# Altium footprint library HVPowerModule_Old.PcbLib: 20 footprints (part 1 of 2)
Each footprint in its own frame and in the unit in brackets; x right, y up, seen from the top. Pads: shape width x height; smd on the part's side, far side on the other; paste and mask are expansions set on the pad; w line width, h text height; cw(c..) or ccw(c..) is an arc to the next point about the centre after c.
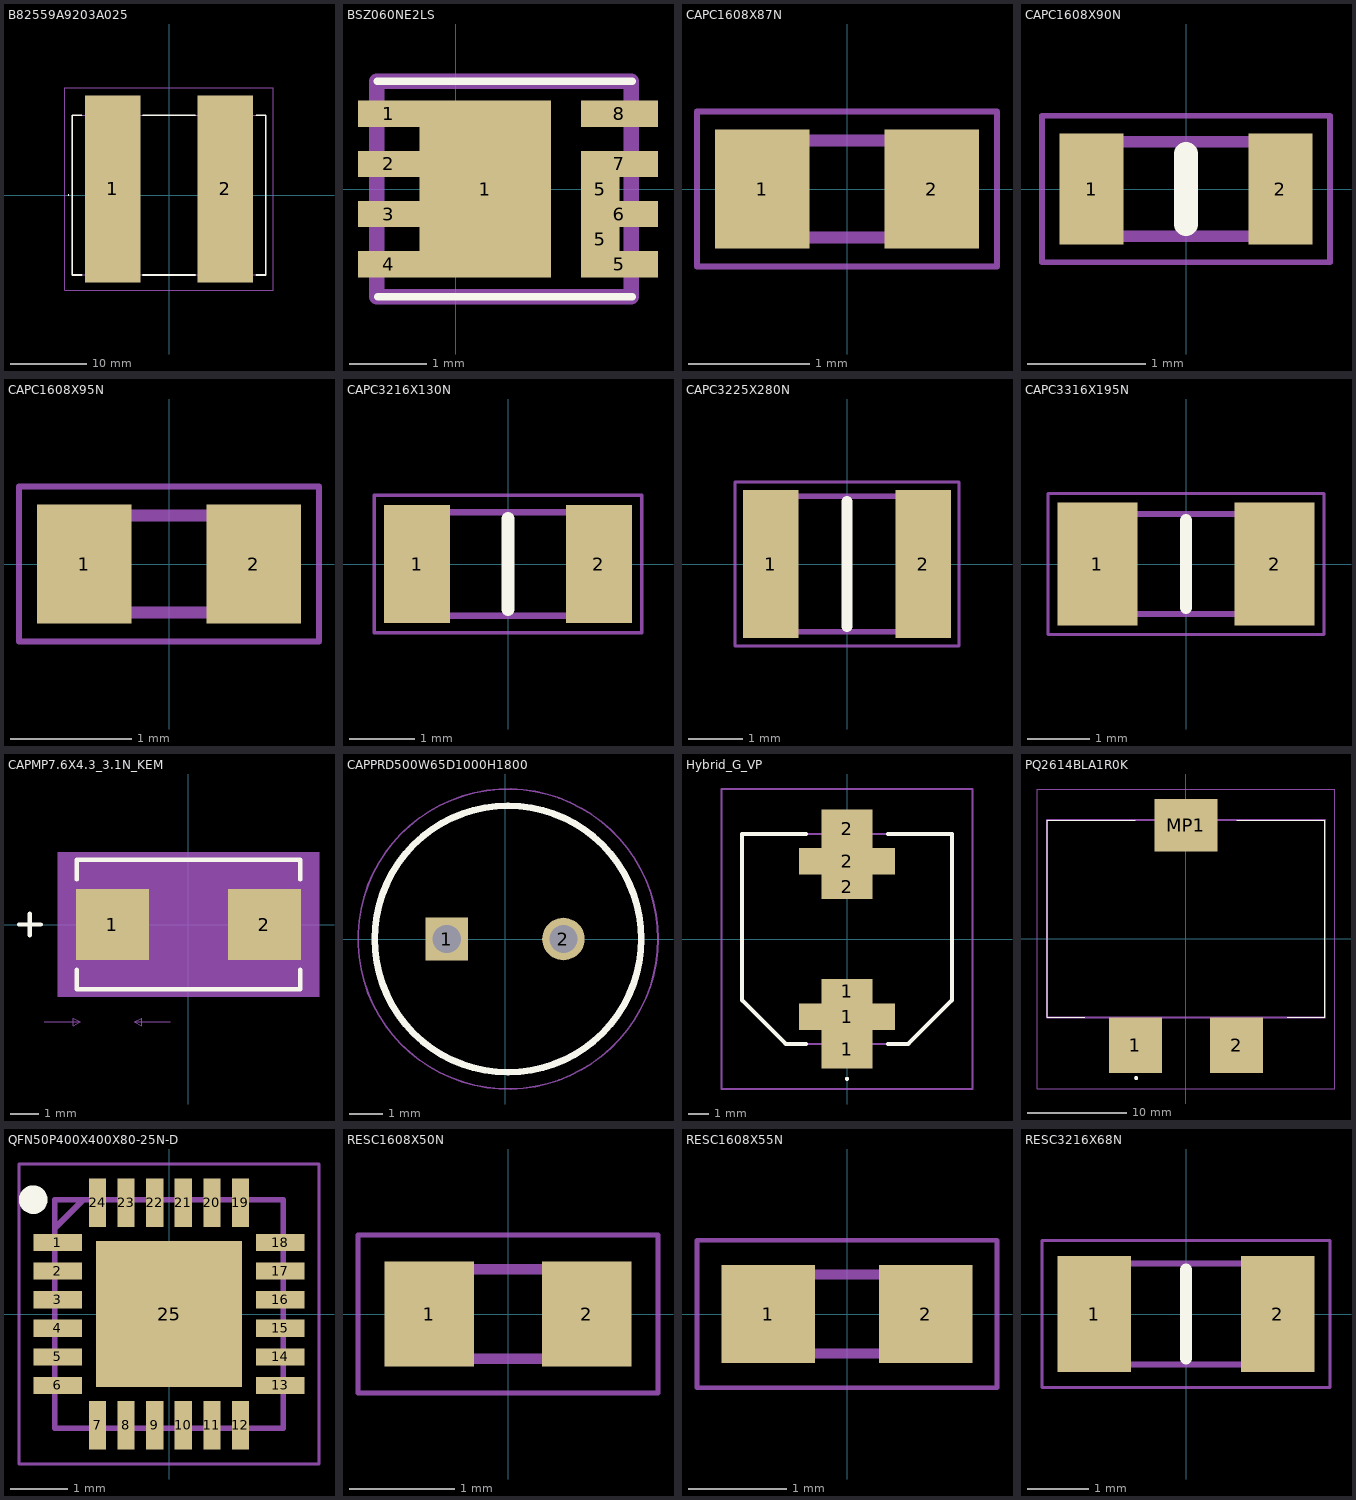
[diagram p0: the footprints below, top view; thin cyan lines are the x and y axes]

## B82559A9203A025 [mm]
pads (2):
  rect 7.25x24.5 smd: 1(-7.375,0.8) 2(7.375,0.8)
Top Overlay:
  lines w0.1: -13.2,0 ccw(c-13.15,0) -13.1,0 ccw(c-13.15,0) -13.2,0
  lines w0.2: -11.4,-10.45 -12.65,-10.45 -12.65,10.45 -11.4,10.45 ; -3.4,-10.45 3.4,-10.45 ; -3.4,10.45 3.4,10.45 ; 11.4,-10.45 12.65,-10.45 12.65,10.45 11.4,10.45
Mechanical 13:
  lines w0.1: -12.65,-10.45 12.65,-10.45 12.65,10.45 -12.65,10.45 -12.65,-10.45
Mechanical 15:
  lines w0.1: -13.65,-12.45 13.65,-12.45 13.65,14.05 -13.65,14.05 -13.65,-12.45
3D body "B82559A9203A025.stp": height 14.9, standoff -0.09, extent -12.726,-12 12.574,11.5

## BSZ060NE2LS [mm]
pads (11):
  rect 0.8x0.34 smd: 1(-0.87,0.975) 2(-0.87,0.325) 3(-0.87,-0.325) 4(-0.87,-0.975)
  rect 1.71x2.29 smd: 1(0.38,0)
  rect 0.5x0.34 smd: 5(1.87,-0.65) 5(1.87,0)
  rect 1x0.34 smd: 5(2.12,-0.975) 6(2.12,-0.325) 7(2.12,0.325) 8(2.12,0.975)
Top Overlay:
  lines w0.1: -1.016,1.397 2.284,1.397 ; -1.014,-1.397 2.286,-1.397
Mechanical 13:
  lines w0.2: -1.025,-1.397 2.275,-1.397 2.275,1.397 -1.025,1.397 -1.025,-1.397

## CAPC1608X87N [mm]
pads (2):
  rect 0.78x0.98 smd: 1(-0.7,0) 2(0.7,0)
Mechanical 13:
  lines w0.1: -0.8,-0.4 -0.8,0.4 0.8,0.4 0.8,-0.4 -0.8,-0.4
Mechanical 15:
  lines w0.05: -1.24,-0.64 -1.24,0.64 1.24,0.64 1.24,-0.64 -1.24,-0.64
3D body "C0603C101J5RACTU.stp": height 0.87, standoff 0, extent -0.8,-0.4 0.8,0.4

## CAPC1608X90N [mm]
pads (2):
  rect 0.54x0.94 smd: 1(-0.8,0) 2(0.8,0)
Top Overlay:
  lines w0.2: 0,-0.3 0,0.3
Mechanical 13:
  lines w0.1: -0.8,-0.4 0.8,-0.4 0.8,0.4 -0.8,0.4 -0.8,-0.4
Mechanical 15:
  lines w0.05: -1.22,-0.62 1.22,-0.62 1.22,0.62 -1.22,0.62 -1.22,-0.62
3D body "CGA3E2X7R1H683K080AA.stp": height 0.9, standoff 0, extent -0.8,-0.4 0.8,0.4

## CAPC1608X95N [mm]
pads (2):
  rect 0.78x0.98 smd: 1(-0.7,0) 2(0.7,0)
Mechanical 13:
  lines w0.1: -0.8,-0.4 -0.8,0.4 0.8,0.4 0.8,-0.4 -0.8,-0.4
Mechanical 15:
  lines w0.05: -1.24,-0.64 -1.24,0.64 1.24,0.64 1.24,-0.64 -1.24,-0.64
3D body "C0603C104M4RACTU.stp": height 0.95, standoff 0, extent -0.8,-0.4 0.8,0.4

## CAPC3216X130N [mm]
pads (2):
  rect 1.02x1.82 smd: 1(-1.4,0) 2(1.4,0)
Top Overlay:
  lines w0.2: 0,-0.7 0,0.7
Mechanical 13:
  lines w0.1: -1.6,-0.8 -1.6,0.8 1.6,0.8 1.6,-0.8 -1.6,-0.8
Mechanical 15:
  lines w0.05: -2.06,-1.06 -2.06,1.06 2.06,1.06 2.06,-1.06 -2.06,-1.06
3D body "C1206C105M5RECTU.stp": height 1.3, standoff 0, extent -1.6,-0.8 1.6,0.8

## CAPC3225X280N [mm]
pads (2):
  rect 1.02x2.72 smd: 1(-1.4,0) 2(1.4,0)
Top Overlay:
  lines w0.2: 0,-1.15 0,1.15
Mechanical 13:
  lines w0.1: -1.6,-1.25 -1.6,1.25 1.6,1.25 1.6,-1.25 -1.6,-1.25
Mechanical 15:
  lines w0.05: -2.06,-1.51 -2.06,1.51 2.06,1.51 2.06,-1.51 -2.06,-1.51
3D body "C1210C106K5RACTU.stp": height 2.8, standoff 0, extent -1.6,-1.25 1.6,1.25

## CAPC3316X195N [mm]
pads (2):
  rect 1.28x1.96 smd: 1(-1.42,0) 2(1.42,0)
Top Overlay:
  lines w0.2: 0,-0.7 0,0.7
Mechanical 13:
  lines w0.1: -1.65,-0.8 1.65,-0.8 1.65,0.8 -1.65,0.8 -1.65,-0.8
Mechanical 15:
  lines w0.05: -2.21,-1.13 2.21,-1.13 2.21,1.13 -2.21,1.13 -2.21,-1.13
3D body "C1206X475M5RACAUTO.stp": height 1.95, standoff 0, extent -1.65,-0.8 1.65,0.8

## CAPMP7.6X4.3_3.1N_KEM [mm]
pads (2):
  rect 2.56x2.5 smd paste+0 mask+0: 1(-2.672,0) 2(2.672,0)
Top Overlay:
  lines w0.152: -5.951,0 -5.189,0 ; -5.57,-0.381 -5.57,0.381 ; -3.927,-1.583 -3.927,-2.277 3.927,-2.277 3.927,-1.583 ; -3.927,1.583 -3.927,2.277 3.927,2.277 3.927,1.583
Mechanical 5:
  region: 4.587,-2.531 -4.587,-2.531 -4.587,2.531 4.587,2.531
Mechanical 7:
  lines w0.025: -5.07,-3.42 -3.8,-3.42 ; -0.63,-3.42 -1.9,-3.42 ; -3.8,-3.42 -4.054,-3.293 -4.054,-3.547 -3.8,-3.42 ; -1.9,-3.42 -1.646,-3.293 -1.646,-3.547 -1.9,-3.42
Mechanical 13:
  lines w0.025: -5.951,0 -5.189,0 ; -5.57,-0.381 -5.57,0.381 ; -3.8,-2.15 3.8,-2.15 3.8,2.15 -3.8,2.15 -3.8,-2.15
Mechanical 15:
  region: -4.054,-1.504 -4.206,-1.504 -4.206,1.504 -4.054,1.504 -4.054,2.404 4.054,2.404 4.054,1.504 4.206,1.504 4.206,-1.504 4.054,-1.504 4.054,-2.404 -4.054,-2.404
  lines w0.152: -4.206,-1.504 -4.206,1.504 -4.054,1.504 -4.054,2.404 4.054,2.404 4.054,1.504 4.206,1.504 4.206,-1.504 4.054,-1.504 4.054,-2.404 -4.054,-2.404 -4.054,-1.504 -4.206,-1.504
3D body "CAPMP76X43_31N_KEM.step": height 3.15, standoff 0, extent -3.673,-2.023 3.927,2.277

## CAPPRD500W65D1000H1800 [mm]
pads (2):
  rect 1.275x1.275 hole 0.85: 1(-1.75,0)
  round 1.275 hole 0.85: 2(1.75,0)
Top Overlay:
  circle w0.2: c0.087,0 r4
Mechanical 13:
  circle w0.1: c0.087,0 r4
Mechanical 15:
  circle w0.05: c0.087,0 r4.5

## Hybrid_G_VP [mm]
pads (6):
  rect 2.5x1.9 smd: 1(0,-5.4) 2(0,5.4)
  rect 4.7x1.3 smd: 1(0,-3.8) 2(0,3.8)
  rect 2.5x1.2 smd: 1(0,-2.55) 2(0,2.55)
Top Overlay:
  lines w0.1: 0,-6.9 cw(c0,-6.85) 0,-6.8 cw(c0,-6.85) 0,-6.9
  lines w0.2: -2,-5.15 -3,-5.15 -5.15,-3 -5.15,5.15 -2,5.15 ; 2,-5.15 3,-5.15 5.15,-3 5.15,5.15 2,5.15
Mechanical 13:
  lines w0.1: -5.15,-3 -3,-5.15 3,-5.15 5.15,-3 5.15,5.15 -5.15,5.15 -5.15,-3
Mechanical 15:
  lines w0.1: -6.15,-7.35 6.15,-7.35 6.15,7.35 -6.15,7.35 -6.15,-7.35
3D body "EEH-ZS1V681UV.stp": height 10.59, standoff 0.09, extent -5.15,-5.85 5.15,5.85

## PQ2614BLA1R0K [mm]
pads (3):
  rect 5.33x5.59 smd: 1(-5.075,-10.655) 2(5.075,-10.655)
  rect 6.35x5.28 smd: MP1(0,11.42)
Top Overlay:
  lines w0.1: -10.16,-7.86 -13.95,-7.865 -13.95,11.94 -5.08,11.94 ; 5.075,11.94 13.95,11.94 13.95,-7.86 10.16,-7.86
  lines w0.2: -5.1,-13.96 cw(c-5,-13.96) -4.9,-13.96 cw(c-5,-13.96) -5.1,-13.96
Mechanical 13:
  lines w0.2: -13.95,-7.86 13.95,-7.86 13.95,11.94 -13.95,11.94 -13.95,-7.86
Mechanical 15:
  lines w0.1: -14.95,-15.06 14.95,-15.06 14.95,15.06 -14.95,15.06 -14.95,-15.06
3D body "PQ2614BHA-100K.stp": height 16.1, standoff 0, extent -13.95,-12.917 13.95,13.532

## QFN50P400X400X80-25N-D [mm]
pads (25):
  rect 0.85x0.3 smd mask+0.04: 1(-1.95,1.25) 6(-1.95,-1.25) 13(1.95,-1.25) 18(1.95,1.25)
  rect 0.85x0.3 smd: 2(-1.95,0.75) 3(-1.95,0.25) 4(-1.95,-0.25) 5(-1.95,-0.75) 14(1.95,-0.75) 15(1.95,-0.25) 16(1.95,0.25) 17(1.95,0.75)
  rect 0.3x0.85 smd mask+0.04: 7(-1.25,-1.95) 12(1.25,-1.95) 19(1.25,1.95) 24(-1.25,1.95)
  rect 0.3x0.85 smd: 8(-0.75,-1.95) 9(-0.25,-1.95) 10(0.25,-1.95) 11(0.75,-1.95) 20(0.75,1.95) 21(0.25,1.95) 22(-0.25,1.95) 23(-0.75,1.95)
  rect 2.55x2.55 smd: 25(0,0)
Top Overlay:
  circle w0.25: c-2.375,2 r0.125
Mechanical 13:
  lines w0.1: -2,1.5 -1.5,2 ; -2,-2 2,-2 2,2 -2,2 -2,-2
Mechanical 15:
  lines w0.05: -2.625,-2.625 2.625,-2.625 2.625,2.625 -2.625,2.625 -2.625,-2.625
3D body "CP2102N-A01-GQFN24.stp": height 0.8, standoff 0, extent -2.05,-2.05 2.05,2.05

## RESC1608X50N [mm]
pads (2):
  rect 0.85x1 smd: 1(-0.75,0) 2(0.75,0)
Mechanical 13:
  lines w0.1: -0.788,-0.425 -0.788,0.425 0.788,0.425 0.788,-0.425 -0.788,-0.425
Mechanical 15:
  lines w0.05: -1.425,-0.75 -1.425,0.75 1.425,0.75 1.425,-0.75 -1.425,-0.75
3D body "CRCW0603118KFKEA.stp": height 0.5, standoff 0, extent -0.787,-0.425 0.787,0.425

## RESC1608X55N [mm]
pads (2):
  rect 0.95x1 smd: 1(-0.8,0) 2(0.8,0)
Mechanical 13:
  lines w0.1: -0.8,-0.4 0.8,-0.4 0.8,0.4 -0.8,0.4 -0.8,-0.4
Mechanical 15:
  lines w0.05: -1.525,-0.75 1.525,-0.75 1.525,0.75 -1.525,0.75 -1.525,-0.75
3D body "ERA-3ARB332V.stp": height 0.55, standoff 0, extent -0.8,-0.4 0.8,0.4

## RESC3216X68N [mm]
pads (2):
  rect 1.2x1.9 smd: 1(-1.5,0) 2(1.5,0)
Top Overlay:
  lines w0.2: 0,-0.725 0,0.725
Mechanical 13:
  lines w0.1: -1.6,-0.825 -1.6,0.825 1.6,0.825 1.6,-0.825 -1.6,-0.825
Mechanical 15:
  lines w0.05: -2.35,-1.2 -2.35,1.2 2.35,1.2 2.35,-1.2 -2.35,-1.2
3D body "PCS1206FR0030ET.stp": height 0.68, standoff 0, extent -1.6,-0.825 1.6,0.825